# Altium footprint library TIDA-00172_revE2_PCB.PcbLib: 26 footprints (part 1 of 2)
Each footprint in its own frame and in the unit in brackets; x right, y up, seen from the top. Pads: shape width x height; smd on the part's side, far side on the other; paste and mask are expansions set on the pad; w line width, h text height; cw(c..) or ccw(c..) is an arc to the next point about the centre after c.
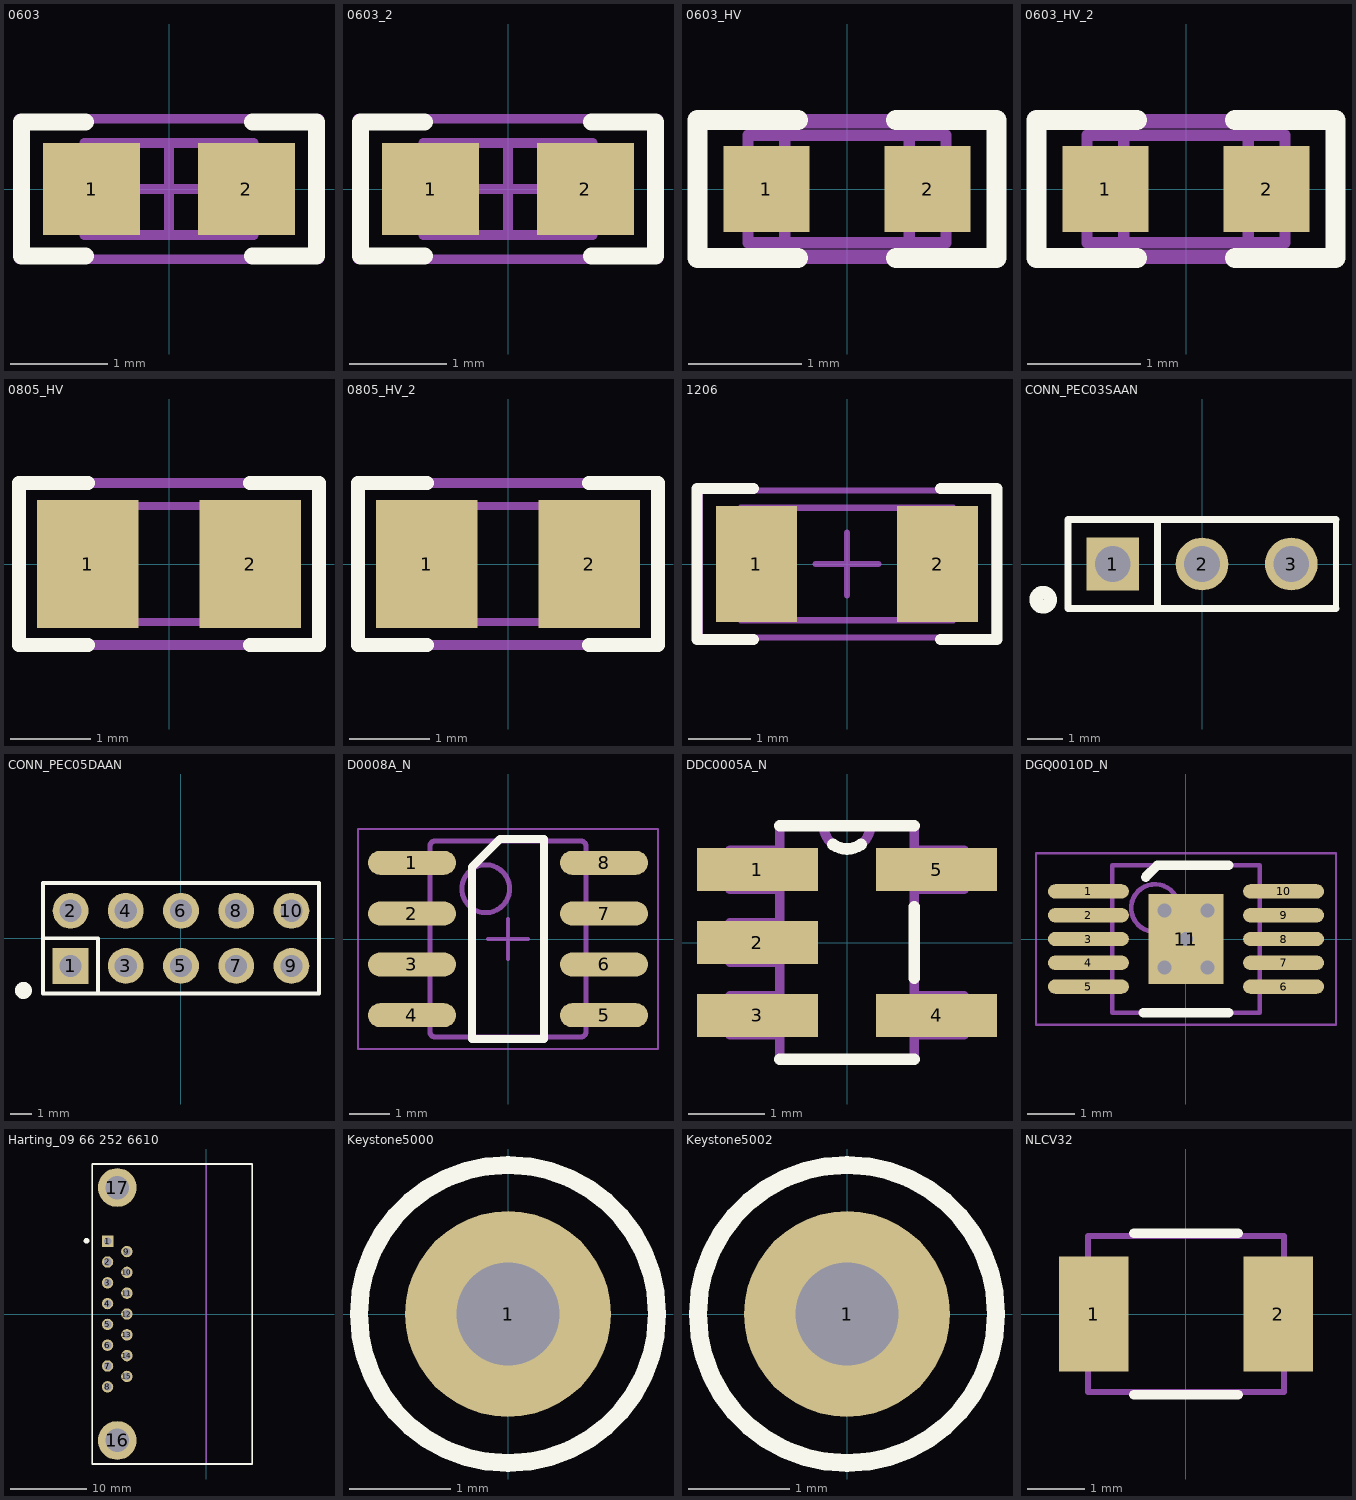
[diagram p0: the footprints below, top view; thin cyan lines are the x and y axes]

## 0603 [mm]
pads (2):
  rect 1x0.95 smd: 1(-0.8,0) 2(0.8,0)
Top Overlay:
  lines w0.178: -0.864,-0.691 -1.524,-0.691 -1.524,0.693 -0.864,0.693 ; 0.864,-0.691 1.524,-0.691 1.524,0.693 0.864,0.693
Mechanical 5:
  lines w0.1: -1.55,-0.725 1.55,-0.725 1.55,0.725 -1.55,0.725 -1.55,-0.725
  text ".Designator" at -1.397,-0.381 h0.76
Mechanical 13:
  lines w0.1: -0.55,-0.475 -0.55,0.475 ; 0.55,-0.475 0.55,0.475 ; -0.875,-0.475 -0.875,0.475 0.875,0.475 0.875,-0.475 -0.875,-0.475
Mechanical 15:
  lines w0.1: -0.475,0 0.475,0 ; 0,-0.475 0,0.475 ; -1.55,-0.725 -1.55,0.725 1.55,0.725 1.55,-0.725 -1.55,-0.725
3D body: height 0.85, standoff 0, extent 0.551,-0.474 0.874,0.474
3D body: height 0.85, standoff 0, extent -0.549,-0.474 0.549,0.474
3D body: height 0.85, standoff 0, extent -0.874,-0.474 -0.551,0.474

## 0603_2 [mm]
pads (2):
  rect 1x0.95 smd: 1(-0.8,0) 2(0.8,0)
Top Overlay:
  lines w0.178: -0.864,-0.691 -1.524,-0.691 -1.524,0.693 -0.864,0.693 ; 0.864,-0.691 1.524,-0.691 1.524,0.693 0.864,0.693
Mechanical 5:
  lines w0.1: -1.55,-0.725 1.55,-0.725 1.55,0.725 -1.55,0.725 -1.55,-0.725
  text ".Designator" at -1.397,-0.381 h0.76
Mechanical 13:
  lines w0.1: -0.55,-0.475 -0.55,0.475 ; 0.55,-0.475 0.55,0.475 ; -0.875,-0.475 -0.875,0.475 0.875,0.475 0.875,-0.475 -0.875,-0.475
Mechanical 15:
  lines w0.1: -0.475,0 0.475,0 ; 0,-0.475 0,0.475 ; -1.55,-0.725 -1.55,0.725 1.55,0.725 1.55,-0.725 -1.55,-0.725
3D body: height 0.85, standoff 0, extent 0.551,-0.474 0.874,0.474
3D body: height 0.85, standoff 0, extent -0.549,-0.474 0.549,0.474
3D body: height 0.85, standoff 0, extent -0.874,-0.474 -0.551,0.474

## 0603_HV [mil]
pads (2):
  rect 30x30 smd: 1(-28,0) 2(28,0)
Top Overlay:
  lines w7: -17,-24 -52,-24 -52,0 -52,24 -17,24 ; 17,-24 52,-24 52,0 52,24 17,24
Mechanical 5:
  lines w5: -52.17,-23.62 -52.17,23.62 52.17,23.62 52.17,-23.62 -52.17,-23.62
  text ".Designator" at -45.82,-12.5 h25
Mechanical 13:
  lines w3.94: -21.65,-18.7 -21.65,18.7 ; 21.65,-18.7 21.65,18.7 ; -34.45,-18.7 -34.45,18.7 34.45,18.7 34.45,-18.7 -34.45,-18.7
3D body: height 33.46, standoff 0, extent 21.67,-18.68 34.43,18.68
3D body: height 33.46, standoff 0, extent -21.63,-18.68 21.63,18.68
3D body: height 33.46, standoff 0, extent -34.43,-18.68 -21.67,18.68

## 0603_HV_2 [mil]
pads (2):
  rect 30x30 smd: 1(-28,0) 2(28,0)
Top Overlay:
  lines w7: -17,-24 -52,-24 -52,0 -52,24 -17,24 ; 17,-24 52,-24 52,0 52,24 17,24
Mechanical 5:
  lines w5: -52.17,-23.62 -52.17,23.62 52.17,23.62 52.17,-23.62 -52.17,-23.62
  text ".Designator" at -45.82,-12.5 h25
Mechanical 13:
  lines w3.94: -21.65,-18.7 -21.65,18.7 ; 21.65,-18.7 21.65,18.7 ; -34.45,-18.7 -34.45,18.7 34.45,18.7 34.45,-18.7 -34.45,-18.7
3D body: height 33.46, standoff 0, extent 21.67,-18.68 34.43,18.68
3D body: height 33.46, standoff 0, extent -21.63,-18.68 21.63,18.68
3D body: height 33.46, standoff 0, extent -34.43,-18.68 -21.67,18.68

## 0805_HV [mil]
pads (2):
  rect 50x63 smd: 1(-40,0) 2(40,0)
Top Overlay:
  lines w7: -40,-40 -74,-40 -74,0 -74,40 -40,40 ; 40,-40 74,-40 74,0 74,40 40,40
Mechanical 5:
  lines w5: -74,-40 -74,40 74,40 74,-40 -74,-40
  text ".Designator" at -64,-17 h35
Mechanical 13:
  lines w3.94: -25.59,-28.54 -25.59,28.54 ; 25.59,-28.54 25.59,28.54 ; -43.31,-28.54 43.31,-28.54 43.31,28.54 -43.31,28.54 -43.31,-28.54
3D body: height 43.31, standoff 0, extent -43.29,-28.52 -25.61,28.52
3D body: height 43.31, standoff 0, extent -25.57,-28.52 25.57,28.52
3D body: height 43.31, standoff 0, extent 25.61,-28.52 43.29,28.52

## 0805_HV_2 [mil]
pads (2):
  rect 50x63 smd: 1(-40,0) 2(40,0)
Top Overlay:
  lines w7: -40,-40 -74,-40 -74,0 -74,40 -40,40 ; 40,-40 74,-40 74,0 74,40 40,40
Mechanical 5:
  lines w5: -74,-40 74,-40 74,40 -74,40 -74,-40
  text ".Designator" at -64,-17 h35
Mechanical 13:
  lines w3.94: -25.59,-28.54 -25.59,28.54 ; 25.59,-28.54 25.59,28.54 ; -43.31,-28.54 -43.31,28.54 43.31,28.54 43.31,-28.54 -43.31,-28.54
3D body: height 43.31, standoff 0, extent 25.61,-28.52 43.29,28.52
3D body: height 43.31, standoff 0, extent -25.57,-28.52 25.57,28.52
3D body: height 43.31, standoff 0, extent -43.29,-28.52 -25.61,28.52

## 1206 [mm]
pads (2):
  rect 1.3x1.85 smd: 1(-1.45,0) 2(1.45,0)
Top Overlay:
  lines w0.178: -1.5,-1.21 -2.4,-1.21 -2.4,1.21 -1.5,1.21 ; 1.5,-1.21 2.4,-1.21 2.4,1.21 1.5,1.21
Mechanical 5:
  lines w0.1: -1.7,-0.9 -1.7,0.9 1.7,0.9 1.7,-0.9 -1.7,-0.9
  text ".Designator" at -1.475,-0.4 h0.81
Mechanical 13:
  lines w0.1: -1.2,-0.9 -1.2,0.9 ; 1.2,-0.9 1.2,0.9 ; -1.7,-0.9 -1.7,0.9 1.7,0.9 1.7,-0.9 -1.7,-0.9
Mechanical 15:
  lines w0.1: -0.5,0 0.5,0 ; 0,-0.5 0,0.5 ; -2.35,-1.175 -2.35,1.175 2.35,1.175 2.35,-1.175 -2.35,-1.175
3D body: height 1.35, standoff 0, extent 1.201,-0.899 1.699,0.899
3D body: height 1.35, standoff 0, extent -1.199,-0.899 1.199,0.899
3D body: height 1.35, standoff 0, extent -1.699,-0.899 -1.201,0.899

## CONN_PEC03SAAN [mm]
pads (3):
  rect 1.5x1.5 hole 1.016: 1(-2.54,0)
  round 1.5 hole 1.016: 2(0,0) 3(2.54,0)
Top Overlay:
  circle w0.381: c-4.521,-1.016 r0.203
  lines w0.178: 3.81,-1.27 3.81,0.254 3.81,1.27
  lines w0.203: -1.27,1.27 -1.27,-1.27 ; 3.81,-1.27 -1.27,-1.27 ; 3.81,1.27 -3.81,1.27 -3.81,-1.27 -1.27,-1.27
Mechanical 5:
  rectangle: -3.047,-0.508 -2.031,0.508
  lines w0.127: -3.81,-1.27 -3.81,1.27 3.81,1.27 3.81,-1.27 -3.81,-1.27
  text ".Designator" at -1.524,-0.254 h0.76
3D body: height 8.38, standoff -3.05, extent 2.236,-0.304 2.844,0.304
3D body: height 8.38, standoff -3.05, extent -0.304,-0.304 0.304,0.304
3D body: height 8.38, standoff -3.05, extent -2.844,-0.304 -2.236,0.304
3D body: height 2.54, standoff 0, extent -3.835,-1.295 3.835,1.295

## CONN_PEC05DAAN [mm]
pads (10):
  rect 1.65x1.65 hole 1.016 mask+0: 1(-5.08,-1.27)
  round 1.65 hole 1.016 mask+0: 2(-5.08,1.27) 3(-2.54,-1.27) 4(-2.54,1.27) 5(0,-1.27) 6(0,1.27) 7(2.54,-1.27) 8(2.54,1.27) 9(5.08,-1.27) 10(5.08,1.27)
Top Overlay:
  circle w0.381: c-7.25,-2.4 r0.203
  lines w0.178: -6.35,0 -3.81,0 -3.81,-2.54 ; -6.35,-2.54 -6.35,2.54 6.35,2.54 6.35,-2.54 -6.35,-2.54
Mechanical 5:
  rectangle: -5.589,-1.777 -4.573,-0.761
  lines w0.076: -6.35,-2.54 -6.35,2.54 6.35,2.54 6.35,-2.54 -6.35,-2.54
  lines w0.127: -6.35,-2.54 6.35,-2.54 6.35,2.54 -6.35,2.54 -6.35,-2.54
  text ".Designator" at -1.778,-0.508 h1.02
3D body: height 2.54, standoff 0, extent -6.349,-2.539 6.349,2.539
3D body: height 8.38, standoff -3.05, extent 4.763,0.953 5.398,1.588
3D body: height 8.38, standoff -3.05, extent 4.763,-1.587 5.398,-0.952
3D body: height 8.38, standoff -3.05, extent 2.223,0.953 2.858,1.588
3D body: height 8.38, standoff -3.05, extent 2.223,-1.587 2.858,-0.952
3D body: height 8.38, standoff -3.05, extent -0.317,0.953 0.318,1.588
3D body: height 8.38, standoff -3.05, extent -0.317,-1.587 0.318,-0.952
3D body: height 8.38, standoff -3.05, extent -2.857,-1.587 -2.222,-0.952
3D body: height 8.38, standoff -3.05, extent -2.857,0.953 -2.222,1.588
3D body: height 8.38, standoff -3.05, extent -5.397,0.953 -4.762,1.588
3D body: height 8.38, standoff -3.05, extent -5.397,-1.587 -4.762,-0.952

## D0008A_N [mm]
pads (8):
  oval 2.2x0.6 smd: 1(-2.4,1.905) 2(-2.4,0.635) 3(-2.4,-0.635) 4(-2.4,-1.905) 5(2.4,-1.905) 6(2.4,-0.635) 7(2.4,0.635) 8(2.4,1.905)
Top Overlay:
  lines w0.2: -0.9,-2.5 -0.9,1.8 -0.2,2.5 0.9,2.5 0.9,-2.5 -0.9,-2.5
Mechanical 5:
  lines w0.127: -2.375,-2.095 -1.995,-2.095 -1.952,-2.095 -1.952,-1.715 -1.995,-1.715 -2.375,-1.715 ; -2.375,-2.095 -2.589,-2.095 -3.002,-2.095 -3.002,-1.715 -2.589,-1.715 -2.375,-1.715 ; -2.375,-2.095 -2.375,-1.715 ; -2.375,-0.825 -1.995,-0.825 -1.952,-0.825 -1.952,-0.445 -1.995,-0.445 -2.375,-0.445 ; -2.375,-0.825 -2.589,-0.825 -3.002,-0.825 -3.002,-0.445 -2.589,-0.445 -2.375,-0.445 ; -2.375,-0.825 -2.375,-0.445 ; -2.375,0.445 -1.995,0.445 -1.952,0.445 -1.952,0.825 -1.995,0.825 -2.375,0.825 ; -2.375,0.445 -2.589,0.445 -3.002,0.445 -3.002,0.825 -2.589,0.825 -2.375,0.825 ; -2.375,0.445 -2.375,0.825 ; -2.375,1.715 -1.995,1.715 -1.952,1.715 -1.952,2.095 -1.995,2.095 -2.375,2.095 ; -2.375,1.715 -2.589,1.715 -3.002,1.715 -3.002,2.095 -2.589,2.095 -2.375,2.095 ; -2.375,1.715 -2.375,2.095 ; -0.332,-2.45 -1.825,-2.45 -1.826,-2.45 cw(c-1.825,-2.323) -1.952,-2.324 -1.952,-2.323 -1.952,2.323 -1.952,2.324 cw(c-1.825,2.323) -1.826,2.45 -1.825,2.45 -0.332,2.45 ; -0.332,-2.45 -0.182,-2.45 ; -0.332,-2.45 -0.182,-2.45 ; -0.332,2.45 -0.182,2.45 ; -0.332,2.45 -0.182,2.45 ; -0.182,-2.45 0.178,-2.45 ; -0.182,2.45 0.178,2.45 ; 0.178,-2.45 0.328,-2.45 ; 0.178,-2.45 0.328,-2.45 ; 0.178,2.45 0.328,2.45 ; 0.178,2.45 0.328,2.45 ; 0.328,-2.45 1.821,-2.45 1.822,-2.45 ccw(c1.821,-2.323) 1.948,-2.324 1.948,-2.323 1.948,2.323 1.948,2.324 ccw(c1.821,2.323) 1.822,2.45 1.821,2.45 0.328,2.45 ; 2.371,-2.095 2.585,-2.095 2.998,-2.095 2.998,-1.715 2.585,-1.715 2.371,-1.715 ; 2.371,-2.095 1.991,-2.095 1.948,-2.095 1.948,-1.715 1.991,-1.715 2.371,-1.715 ; 2.371,-2.095 2.371,-1.715 ; 2.371,-0.825 2.585,-0.825 2.998,-0.825 2.998,-0.445 2.585,-0.445 2.371,-0.445 ; 2.371,-0.825 1.991,-0.825 1.948,-0.825 1.948,-0.445 1.991,-0.445 2.371,-0.445 ; 2.371,-0.825 2.371,-0.445 ; 2.371,0.445 2.585,0.445 2.998,0.445 2.998,0.825 2.585,0.825 2.371,0.825 ; 2.371,0.445 1.991,0.445 1.948,0.445 1.948,0.825 1.991,0.825 2.371,0.825 ; 2.371,0.445 2.371,0.825 ; 2.371,1.715 2.585,1.715 2.998,1.715 2.998,2.095 2.585,2.095 2.371,2.095 ; 2.371,1.715 1.991,1.715 1.948,1.715 1.948,2.095 1.991,2.095 2.371,2.095 ; 2.371,1.715 2.371,2.095 ; -0.555,0.659 cw(c-0.555,1.256) -0.555,1.853 cw(c-0.555,1.256) -0.555,0.659
  text ".Designator" at -1.625,-0.625 h0.89
Mechanical 15:
  lines w0.05: -3.75,-2.75 -3.75,2.75 3.75,2.75 3.75,-2.75 -3.75,-2.75
  lines w0.1: -0.5,0 0.5,0 ; 0,-0.5 0,0.5
3D body "SOIC-8akaD0008AakaM08A.stp": height 1.63, standoff 0, extent -3,-2.45 3,2.45

## DDC0005A_N [mil]
pads (5):
  rect 62x22 smd: 1(-46,37.4) 2(-46,0) 3(-46,-37.4) 4(46,-37.4) 5(46,37.4)
Top Overlay:
  lines w6: -34.5,-60 34.5,-60 ; -34.5,60 34.5,60 ; -7.14,50.35 ccw(c0,60) 7.14,50.35 ; 34.5,-18.3 34.5,18.3
Mechanical 5:
  lines w5: -12,60 ccw(c0,60) 12,60 ; -60,-47.4 -60,-27.4 -34.5,-27.4 -34.5,-47.4 -60,-47.4 ; -60,-10 -60,10 -34.5,10 -34.5,-10 -60,-10 ; -60,27.4 -60,47.4 -34.5,47.4 -34.5,27.4 -60,27.4 ; -34.5,-60 34.5,-60 34.5,60 -34.5,60 -34.5,-60 ; 34.5,-47.4 34.5,-27.4 60,-27.4 60,-47.4 34.5,-47.4 ; 34.5,27.4 34.5,47.4 60,47.4 60,27.4 34.5,27.4
  text ".Designator" at -70,-20 h40
3D body: height 23.62, standoff 0, extent -59.98,-47.38 -34.52,-27.42
3D body: height 23.62, standoff 0, extent -59.98,27.42 -34.52,47.38
3D body: height 23.62, standoff 0, extent 34.52,-47.38 59.98,-27.42
3D body: height 23.62, standoff 0, extent 34.52,27.42 59.98,47.38
3D body: height 23.62, standoff 0, extent -59.98,-9.98 -34.52,9.98
3D body: height 43.31, standoff 0, extent -34.48,-59.98 34.48,59.98
3D body: height 43.31, standoff 0, extent -34.5,47.98 34.52,60.02

## DGQ0010D_N [mm]
pads (11):
  oval 1.7x0.3 smd: 1(-2.05,1) 2(-2.05,0.5) 3(-2.05,0) 4(-2.05,-0.5) 5(-2.05,-1) 6(2.05,-1) 7(2.05,-0.5) 8(2.05,0) 9(2.05,0.5) 10(2.05,1)
  rect 1.57x1.88 smd: 11(0,0)
via 0,0 diameter 0.5 hole 0.3
via 0.45,0.6 diameter 0.5 hole 0.3
via 0.45,-0.6 diameter 0.5 hole 0.3
via -0.45,-0.6 diameter 0.5 hole 0.3
via -0.45,0.6 diameter 0.5 hole 0.3
Top Overlay:
  lines w0.2: -0.9,-1.55 0.9,-1.55 ; -0.85,1.3 -0.6,1.55 0.9,1.55
Mechanical 5:
  circle w0.1: c-0.65,0.65 r0.5
  lines w0.1: -1.55,-1.55 -1.55,1.55 1.55,1.55 1.55,-1.55 -1.55,-1.55
  text ".Designator" at -1.397,-1.016 h0.76
Mechanical 15:
  lines w0.05: -3.15,-1.8 -3.15,1.8 3.15,1.8 3.15,-1.8 -3.15,-1.8
  lines w0.1: -0.5,0 0.5,0 ; 0,-0.5 0,0.5
3D body: height 1.1, standoff 0.05, extent -1.55,-1.55 1.55,1.55

## Harting_09 66 252 6610 [mm]
pads (17):
  rect 1.5x1.5 hole 1 paste+0: 1(-12.97,9.59)
  round 1.5 hole 1 paste+0: 2(-12.97,6.85) 3(-12.97,4.11) 4(-12.97,1.37) 5(-12.97,-1.37) 6(-12.97,-4.11) 7(-12.97,-6.85) 8(-12.97,-9.59) 9(-10.43,8.22) 10(-10.43,5.48) 11(-10.43,2.74) 12(-10.43,0) 13(-10.43,-2.74) 14(-10.43,-5.48) 15(-10.43,-8.22)
  round 5.1 hole 3.1 paste+0: 16(-11.7,-16.65) 17(-11.7,16.65)
Top Overlay:
  circle w0.5: c-15.742,9.622 r0.121
  lines w0.2: -15,-19.75 6.1,-19.75 6.1,19.75 -15,19.75 -15,-19.75
Mechanical 1:
  lines w0.2: 0,-19.75 0,19.75
  text "PCB Edge" at 1.524,-3.636 h1.02
Mechanical 5:
  region: -12.289,8.93 -12.289,10.262 -13.599,10.262 -13.599,8.93
  lines w0.1: -15,-19.75 -15,19.75 6.1,19.75 6.1,-19.75 -15,-19.75
  text ".Designator" at -12.158,-0.437 h1.02
3D body: height 13.6, standoff 0, extent -14.999,-19.749 6.099,19.749
3D body: height 13.6, standoff 13.6, extent -13.466,9.091 -12.47,10.089

## Keystone5000 [mil]
pads (1):
  round 80 hole 40: 1(0,0)
Top Overlay:
  circle w7: c0,0 r58
Mechanical 5:
  circle w5: c0,0 r58.31
  text ".Designator" at -45,-10 h30
3D body "Keystone_5000.stp": height 181.97, standoff -118.11, extent -49,-49 49.04,49.23

## Keystone5002 [mil]
pads (1):
  round 80 hole 40: 1(0,0)
Top Overlay:
  circle w7: c0,0 r58
Mechanical 5:
  circle w5: c0,0 r58.31
  text ".Designator" at -45,-10 h30
3D body "Keystone_5002.stp": height 181.97, standoff -118.11, extent -49,-49 49.04,49.23

## NLCV32 [mm]
pads (2):
  rect 1.2x2 smd: 1(-1.6,0) 2(1.6,0)
Top Overlay:
  lines w0.17: -0.9,-1.4 0.9,-1.4 ; -0.9,1.4 0.9,1.4
Mechanical 5:
  lines w0.1: -1.7,-1.35 -1.7,1.35 1.7,1.35 1.7,-1.35 -1.7,-1.35
  text ".Designator" at -1.6,-0.4 h0.9
3D body: height 2.4, standoff 0, extent -1.699,-1.349 1.699,1.349